# EAGLE library part LTC3605 (library linear-technology)
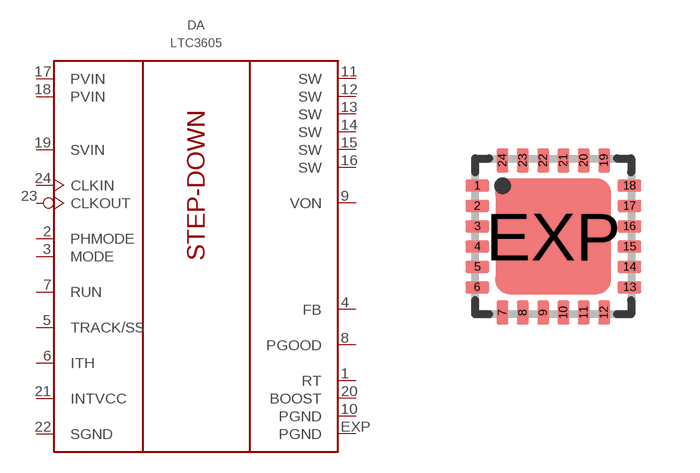
[diagram p2: symbol with the pads of QFN24; footprint QFN24]

Designator prefix DA

## LTC3605EUF#PBF  [QFN24]
1  RT  pas
2  PHMODE  pas
3  MODE  pas
4  FB  out
5  TRACK/SS  out
6  ITH  out
7  RUN  in
8  PGOOD  out
9  VON  in
10  PGND  pwr
11  SW  out
12  SW  out
13  SW  out
14  SW  out
15  SW  out
16  SW  out
17  PVIN  in
18  PVIN  in
19  SVIN  in
20  BOOST  pas
21  INTVCC  out
22  SGND  pwr
23  CLKOUT  out
24  CLKIN
EXP  PGND  pwr

## LTC3605IUF#PBF  [QFN24]
Pads as for QFN24

## Footprint QFN24 (pad centres in mm)
QFN 4x4 mm Source: http://www.hittite.com/product_info/product_specs/dividersdetectors/hmc394lp4.pdf
smd 0.6 x 0.3: 1 -1.905,1.27; 2 -1.905,0.762; 3 -1.905,0.254; 4 -1.905,-0.254; 5 -1.905,-0.762; 6 -1.905,-1.27; 13 1.905,-1.27; 14 1.905,-0.762; 15 1.905,-0.254; 16 1.905,0.254; 17 1.905,0.762; 18 1.905,1.27
smd 0.3 x 0.6: 7 -1.27,-1.905; 8 -0.762,-1.905; 9 -0.254,-1.905; 10 0.254,-1.905; 11 0.762,-1.905; 12 1.27,-1.905; 19 1.27,1.905; 20 0.762,1.905; 21 0.254,1.905; 22 -0.254,1.905; 23 -0.762,1.905; 24 -1.27,1.905
smd 2.9 x 2.9: EXP 0,0